# Altium integrated library TI Power Management Step-Down Regulator.IntLib: 559 symbols (part 13 of 35)
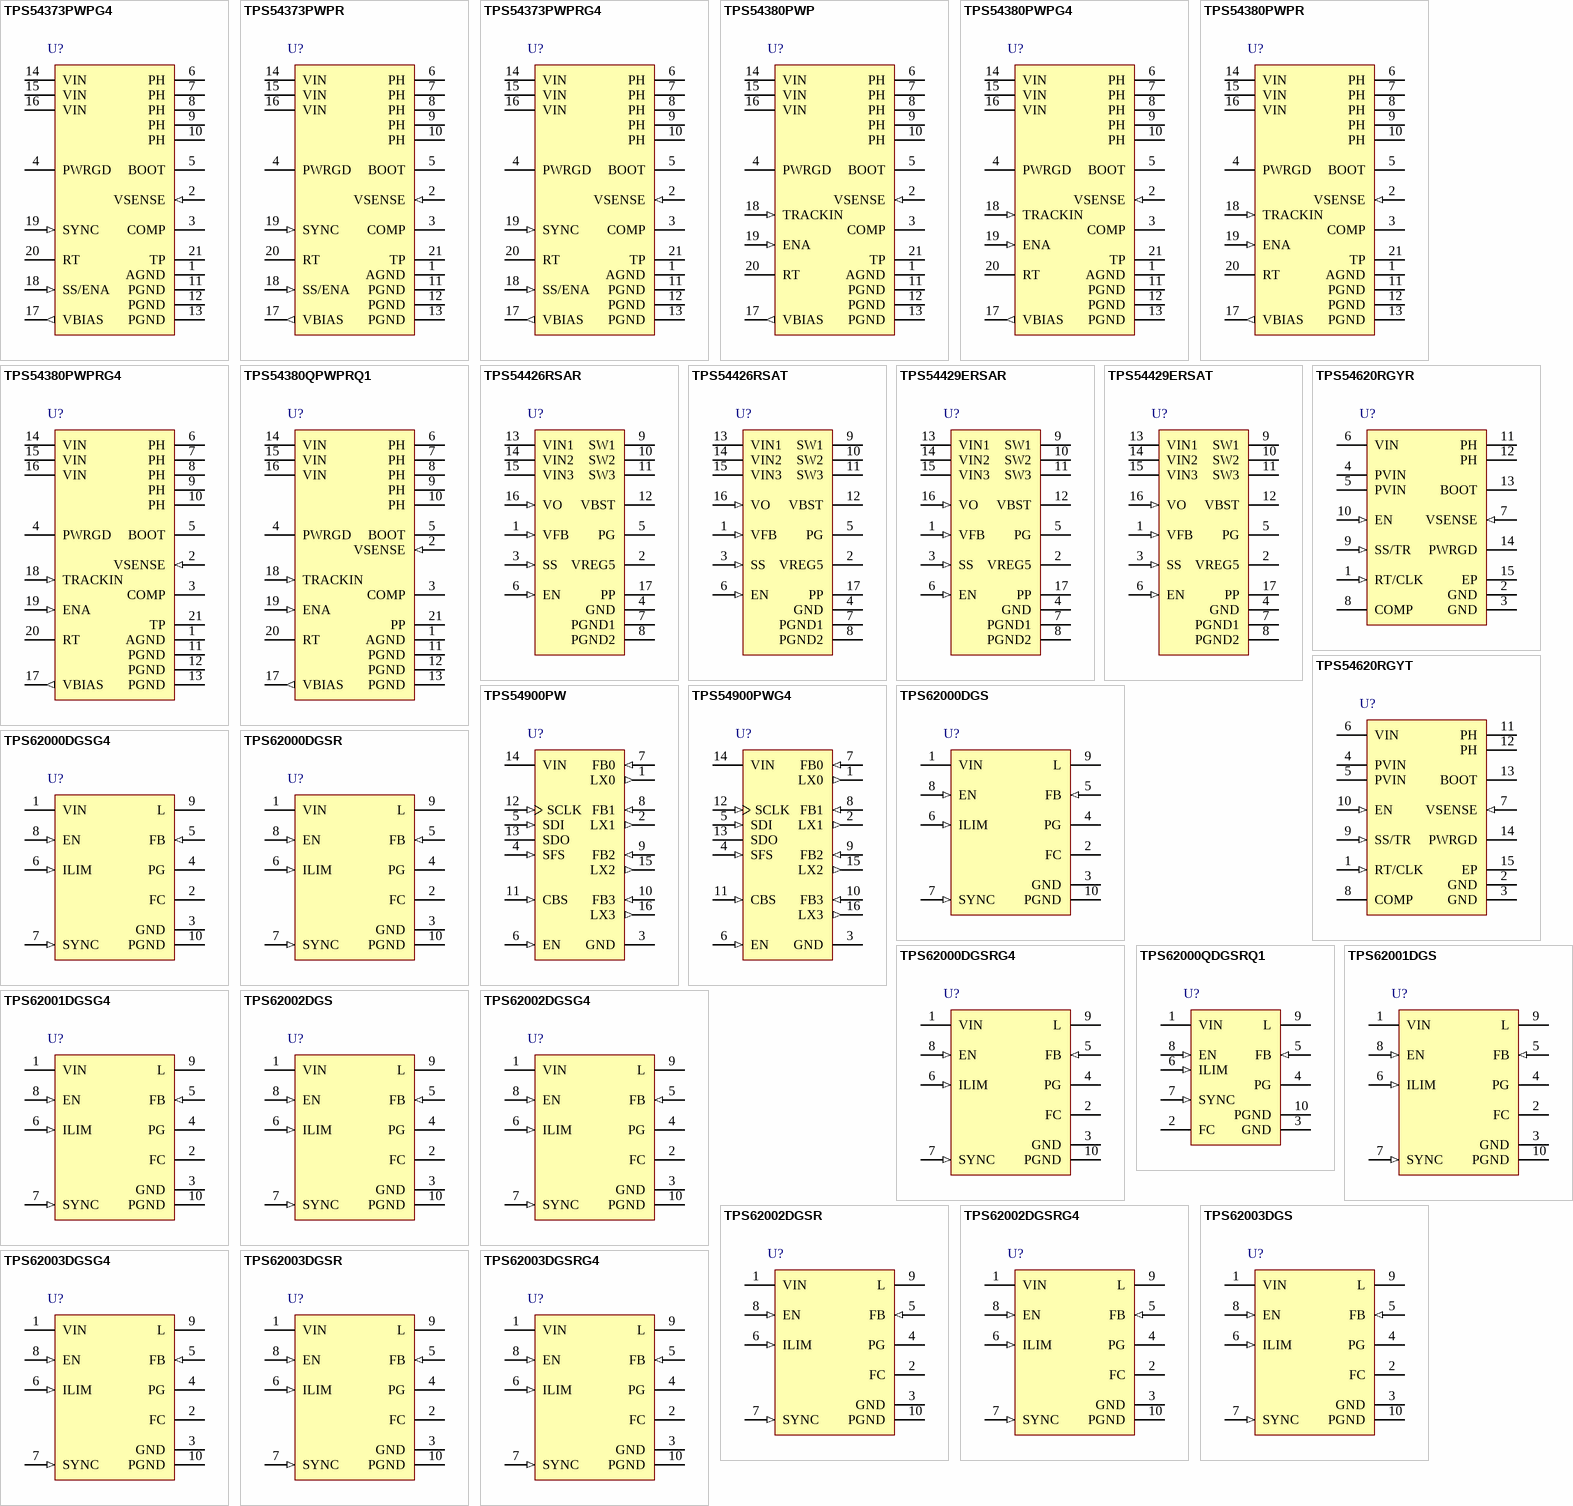
[diagram p31: symbols TPS54373PWPG4 to TPS62003DGSRG4]

## TPS62000DGSRG4
designator U?
Buck Step-Down Regulator with 2 V to 5.5 V Input and 0.9 V to 5 V Output, -40 to 85 degC, 10-Pin MSOP (DGS), Green (RoHS & no Sb/Br); Manufacturer: Texas Instruments; PartNumber: TPS62000DGSRG4; Duty Cycle(Max)(%): 100; Iout(Max)(A): 0.6; Iq(Typ)(mA): 0.05; Rating: Catalog; Regulated Outputs(#): 1; Switch Current Limit(Typ)(A): 1.6; Synchronous Rectification: TRUE; Vin(Max)(V): 5.5; Vin(Min)(V): 2; Vout(Max)(V): 5; Vout(Min)(V): 0.9; DatasheetVersion: SLVS294E; PackageVersion: revC, Feb-2004; PackageReference: DGS10; PackageDescription: 10-Pin Thin Shrink Small Outline Package 0.5 mm Pitch; Supplier 1: Digi-Key; Supplier Part Number 1: TPS62000DGSRG4-ND; Supplier 2: Newark; Supplier Part Number 2: 71J8187; Supplier 3: Mouser; Supplier Part Number 3: 595-TPS62000DGSRG4; Eco-Plan: Green (RoHS & no Sb/Br); SubFamily: Step-Down Regulator; Topology: Buck; Mounting Technology: Surface Mount; Code_JEDEC: MO-187-BA; ComponentLink1Description: Datasheet; ComponentLink1URL: http://www.ti.com/general/docs/lit/getliterature.tsp?genericPartNumber=TPS62000&fileType=pdf; ComponentLink2Description: Package Specification; ComponentLink2URL: http://www.ti.com/litv/pdf/mpds373
footprint DGS10_N (TSSOP, 10-Leads, Body 3x3mm, Pitch 0.5mm, IPC Medium Density)
footprint DGS10_L (TSSOP, 10-Leads, Body 3x3mm, Pitch 0.5mm, IPC High Density)
footprint DGS10_M (TSSOP, 10-Leads, Body 3x3mm, Pitch 0.5mm, IPC Low Density)
pins: 1 VIN (power) "Supply voltage input", 2 FC "Supply bypass pin. A 0.1 µF coupling capacitor should be connected as close as possible to this pin for good high frequency input voltage supply filtering.", 3 GND (power) "Ground", 4 PG (hiz) "Power good comparator output. This is an open-drain output. A pullup resistor should be connected between PG and VO. The output goes active high when the output voltage is greater than 92% of the nominal value.", 5 FB (in) "Feedback pin for the fixed output voltage option. For the adjustable version an external resistive divider is connected to FB. The internal voltage divider is disabled for the adjustable version.", 6 ILIM (in) "Switch current limit. Connect ILIM to GND to set the switch current limit to typically 600 mA, or connect this pin to VIN to set the current limit to typically 1200 mA.", 7 SYNC (in) "Input for synchronization to external clock signal. Synchronizes the converter switching frequency to an external clock signal with CMOS level:SYNC = HIGH: Low-noise mode enabled, fixed frequency PWM operation is forced SYNC (See Datasheet)", 8 EN (in) "Enable. A logic high enables the converter, logic low forces the device into shutdown mode reducing the supply current to less than 1 uA.", 9 L (power) "Connect the inductor to this pin. L is the switch pin connected to the drain of the internal power MOSFETS", 10 PGND (power) "Power ground. Connect all power grounds to PGND."

## TPS62000QDGSRQ1
designator U?
Buck Step Down Regulator with 2 to 5.5 V Input and 0.9 to 5 V Output, -40 to 125 degC, 10-Pin MSOP (DGS), Green (RoHS & no Sb/Br); Manufacturer: Texas Instruments; PartNumber: TPS62000QDGSRQ1; Duty Cycle(Max)(%): 100; Iout(Max)(A): 0.6; Iq(Typ)(mA): 0.05; Rating: Automotive; Regulated Outputs(#): 1; SubFamily: Step-Down Regulator; Switch Current Limit(Typ)(A): 1.6; Synchronous Rectification: TRUE; Vin(Max)(V): 5.5; Vin(Min)(V): 2; Vout(Max)(V): 5; Vout(Min)(V): 0.9; DatasheetVersion: SGLS243A; PackageVersion: revC, Feb-2004; PackageReference: DGS10; PackageDescription: 10-Pin Thin Shrink Small Outline Package 0.5 mm Pitch; Supplier 1: Digi-Key; Supplier Part Number 1: 296-23767-2-ND; Supplier 2: Digi-Key; Supplier Part Number 2: 296-23767-1-ND; Supplier 3: Digi-Key; Supplier Part Number 3: 296-23767-6-ND; Supplier 4: Newark; Supplier Part Number 4: 10J9781; Supplier 5: Mouser; Supplier Part Number 5: 595-TPS62000QDGSRQ1; Eco-Plan: Green (RoHS & no Sb/Br); Topology: Buck; Mounting Technology: Surface Mount; Code_JEDEC: MO-187-BA; ComponentLink1Description: Datasheet; ComponentLink1URL: http://www.ti.com/general/docs/lit/getliterature.tsp?genericPartNumber=TPS62000-Q1&fileType=pdf; ComponentLink2Description: Package Specification; ComponentLink2URL: http://www.ti.com/litv/pdf/mpds373; ComponentLink3Description: URL Link1; ComponentLink3URL: Samples URL:http://www.ti.com/product/tps54611#samples
footprint DGS10_N (TSSOP, 10-Leads, Body 3x3mm, Pitch 0.5mm, IPC Medium Density)
footprint DGS10_L (TSSOP, 10-Leads, Body 3x3mm, Pitch 0.5mm, IPC High Density)
footprint DGS10_M (TSSOP, 10-Leads, Body 3x3mm, Pitch 0.5mm, IPC Low Density)
pins: 1 VIN (power) "Supply voltage input", 2 FC "Supply bypass pin. A 0.1-µF coupling capacitor should be connected as close as possible to this pin for good high frequency input voltage supply filtering.", 3 GND (power) "Ground", 4 PG (hiz) "Power good comparator output. This is an open-drain output. A pullup resistor should be connected between PG and VO. The output goes active high when the output voltage is greater than 92% of the nominal value.", 5 FB (in) "Feedback pin for the fixed output voltage option. For the adjustable version, an external resistive divider is connected to FB. The internal voltage divider is disabled for the adjustable version.", 6 ILIM (in) "Switch current limit. Connect ILIM to GND to set the switch current limit to typically 600 mA, or connect this pin to VIN to set the current limit to typically 1200 mA.", 7 SYNC (in) "Input for synchronization to external clock signal. Synchronizes the converter switching frequency to an external clock signal with CMOS level: SYNC = High: Low-noise mode enabled, fixed frequency PWM operation is forced (See Datasheet)", 8 EN (in) "Enable. A logic high enables the converter and a logic low forces the device into shutdown mode reducing the supply current to less than 1 µA.", 9 L (power) "Connect the inductor to this pin. L is the switch pin connected to the drain of the internal power MOSFETS.", 10 PGND (power) "Power ground. Connect all power grounds to PGND."

## TPS62001DGS
designator U?
Buck Step-Down Regulator with 2 V to 5.5 V Input and 0.9 V Output, -40 to 85 degC, 10-Pin MSOP (DGS); Manufacturer: Texas Instruments; PartNumber: TPS62001DGS; Duty Cycle(Max)(%): 100; Eco-Plan: TBD; Iout(Max)(A): 0.6; Iq(Typ)(mA): 0.05; Preset Vout(V): 0.9; Rating: Catalog; Regulated Outputs(#): 1; Switch Current Limit(Typ)(A): 1.6; Synchronous Rectification: TRUE; Vin(Max)(V): 5.5; Vin(Min)(V): 2; DatasheetVersion: SLVS294E; PackageVersion: revC, Feb-2004; PackageReference: DGS10; PackageDescription: 10-Pin Thin Shrink Small Outline Package 0.5 mm Pitch; Supplier 1: Digi-Key; Supplier Part Number 1: TPS62001DGS-ND; Supplier 2: Newark; Supplier Part Number 2: 77C0696; Supplier 3: Mouser; Supplier Part Number 3: 595-TPS62001DGS; SubFamily: Step-Down Regulator; Topology: Buck; Vout(Max)(V): 0.9; Vout(Min)(V): 0.9; Mounting Technology: Surface Mount; Code_JEDEC: MO-187-BA; ComponentLink1Description: Datasheet; ComponentLink1URL: http://www.ti.com/general/docs/lit/getliterature.tsp?genericPartNumber=TPS62001&fileType=pdf; ComponentLink2Description: Package Specification; ComponentLink2URL: http://www.ti.com/litv/pdf/mpds373
footprint DGS10_N (TSSOP, 10-Leads, Body 3x3mm, Pitch 0.5mm, IPC Medium Density)
footprint DGS10_L (TSSOP, 10-Leads, Body 3x3mm, Pitch 0.5mm, IPC High Density)
footprint DGS10_M (TSSOP, 10-Leads, Body 3x3mm, Pitch 0.5mm, IPC Low Density)
pins: 1 VIN (power) "Supply voltage input", 2 FC "Supply bypass pin. A 0.1 µF coupling capacitor should be connected as close as possible to this pin for good high frequency input voltage supply filtering.", 3 GND (power) "Ground", 4 PG (hiz) "Power good comparator output. This is an open-drain output. A pullup resistor should be connected between PG and VO. The output goes active high when the output voltage is greater than 92% of the nominal value.", 5 FB (in) "Feedback pin for the fixed output voltage option. For the adjustable version an external resistive divider is connected to FB. The internal voltage divider is disabled for the adjustable version.", 6 ILIM (in) "Switch current limit. Connect ILIM to GND to set the switch current limit to typically 600 mA, or connect this pin to VIN to set the current limit to typically 1200 mA.", 7 SYNC (in) "Input for synchronization to external clock signal. Synchronizes the converter switching frequency to an external clock signal with CMOS level:SYNC = HIGH: Low-noise mode enabled, fixed frequency PWM operation is forced SYNC (See Datasheet)", 8 EN (in) "Enable. A logic high enables the converter, logic low forces the device into shutdown mode reducing the supply current to less than 1 uA.", 9 L (power) "Connect the inductor to this pin. L is the switch pin connected to the drain of the internal power MOSFETS.", 10 PGND (power) "Power ground. Connect all power grounds to PGND."

## TPS62001DGSG4
designator U?
Buck Step-Down Regulator with 2 V to 5.5 V Input and 0.9 V Output, -40 to 85 degC, 10-Pin MSOP (DGS); Manufacturer: Texas Instruments; PartNumber: TPS62001DGSG4; Duty Cycle(Max)(%): 100; Eco-Plan: TBD; Iout(Max)(A): 0.6; Iq(Typ)(mA): 0.05; Preset Vout(V): 0.9; Rating: Catalog; Regulated Outputs(#): 1; Switch Current Limit(Typ)(A): 1.6; Synchronous Rectification: TRUE; Vin(Max)(V): 5.5; Vin(Min)(V): 2; DatasheetVersion: SLVS294E; PackageVersion: revC, Feb-2004; PackageReference: DGS10; PackageDescription: 10-Pin Thin Shrink Small Outline Package 0.5 mm Pitch; Supplier 1: Digi-Key; Supplier Part Number 1: TPS62001DGSG4-ND; Supplier 2: Newark; Supplier Part Number 2: 24K6028; Supplier 3: Mouser; Supplier Part Number 3: 595-TPS62001DGSG4; SubFamily: Step-Down Regulator; Topology: Buck; Vout(Max)(V): 0.9; Vout(Min)(V): 0.9; Mounting Technology: Surface Mount; Code_JEDEC: MO-187-BA; ComponentLink1Description: Datasheet; ComponentLink1URL: http://www.ti.com/general/docs/lit/getliterature.tsp?genericPartNumber=TPS62001&fileType=pdf; ComponentLink2Description: Package Specification; ComponentLink2URL: http://www.ti.com/litv/pdf/mpds373
footprint DGS10_N (TSSOP, 10-Leads, Body 3x3mm, Pitch 0.5mm, IPC Medium Density)
footprint DGS10_L (TSSOP, 10-Leads, Body 3x3mm, Pitch 0.5mm, IPC High Density)
footprint DGS10_M (TSSOP, 10-Leads, Body 3x3mm, Pitch 0.5mm, IPC Low Density)
pins: 1 VIN (power) "Supply voltage input", 2 FC "Supply bypass pin. A 0.1 µF coupling capacitor should be connected as close as possible to this pin for good high frequency input voltage supply filtering.", 3 GND (power) "Ground", 4 PG (hiz) "Power good comparator output. This is an open-drain output. A pullup resistor should be connected between PG and VO. The output goes active high when the output voltage is greater than 92% of the nominal value.", 5 FB (in) "Feedback pin for the fixed output voltage option. For the adjustable version an external resistive divider is connected to FB. The internal voltage divider is disabled for the adjustable version.", 6 ILIM (in) "Switch current limit. Connect ILIM to GND to set the switch current limit to typically 600 mA, or connect this pin to VIN to set the current limit to typically 1200 mA.", 7 SYNC (in) "Input for synchronization to external clock signal. Synchronizes the converter switching frequency to an external clock signal with CMOS level:SYNC = HIGH: Low-noise mode enabled, fixed frequency PWM operation is forced SYNC (See Datasheet)", 8 EN (in) "Enable. A logic high enables the converter, logic low forces the device into shutdown mode reducing the supply current to less than 1 uA.", 9 L (power) "Connect the inductor to this pin. L is the switch pin connected to the drain of the internal power MOSFETS.", 10 PGND (power) "Power ground. Connect all power grounds to PGND."

## TPS62002DGS
designator U?
Buck Step-Down Regulator with 2 V to 5.5 V Input and 1 V Output, -40 to 85 degC, 10-Pin MSOP (DGS), Green (RoHS & no Sb/Br); Manufacturer: Texas Instruments; PartNumber: TPS62002DGS; Duty Cycle(Max)(%): 100; Iout(Max)(A): 0.6; Iq(Typ)(mA): 0.05; Preset Vout(V): 1; Rating: Catalog; Switch Current Limit(Typ)(A): 1.6; Synchronous Rectification: TRUE; Vin(Max)(V): 5.5; Vin(Min)(V): 2; DatasheetVersion: SLVS294E; PackageVersion: revC, Feb-2004; PackageReference: DGS10; PackageDescription: 10-Pin Thin Shrink Small Outline Package 0.5 mm Pitch; Supplier 1: Digi-Key; Supplier Part Number 1: 296-34630-5-ND; Supplier 2: Newark; Supplier Part Number 2: 77C0698; Supplier 3: Mouser; Supplier Part Number 3: 595-TPS62002DGS; Eco-Plan: Green (RoHS & no Sb/Br); Regulated Outputs(#): 1; SubFamily: Step-Down Regulator; Topology: Buck; Vout(Max)(V): 1; Vout(Min)(V): 1; Mounting Technology: Surface Mount; Code_JEDEC: MO-187-BA; ComponentLink1Description: Datasheet; ComponentLink1URL: http://www.ti.com/general/docs/lit/getliterature.tsp?genericPartNumber=TPS62002&fileType=pdf; ComponentLink2Description: Package Specification; ComponentLink2URL: http://www.ti.com/litv/pdf/mpds373
footprint DGS10_N (TSSOP, 10-Leads, Body 3x3mm, Pitch 0.5mm, IPC Medium Density)
footprint DGS10_L (TSSOP, 10-Leads, Body 3x3mm, Pitch 0.5mm, IPC High Density)
footprint DGS10_M (TSSOP, 10-Leads, Body 3x3mm, Pitch 0.5mm, IPC Low Density)
pins: 1 VIN (power) "ISupply voltage input", 2 FC "Supply bypass pin. A 0.1 µF coupling capacitor should be connected as close as possible to this pin for good high frequency input voltage supply filtering.", 3 GND (power) "Ground", 4 PG (hiz) "Power good comparator output. This is an open-drain output. A pullup resistor should be connected between PG and VO. The output goes active high when the output voltage is greater than 92% of the nominal value.", 5 FB (in) "Feedback pin for the fixed output voltage option. For the adjustable version an external resistive divider is connected to FB. The internal voltage divider is disabled for the adjustable version.", 6 ILIM (in) "Switch current limit. Connect ILIM to GND to set the switch current limit to typically 600 mA, or connect this pin to VIN to set the current limit to typically 1200 mA.", 7 SYNC (in) "Input for synchronization to external clock signal. Synchronizes the converter switching frequency to an external clock signal with CMOS level:SYNC = HIGH: Low-noise mode enabled, fixed frequency PWM operation is forced SYNC (See Datasheet)", 8 EN (in) "Enable. A logic high enables the converter, logic low forces the device into shutdown mode reducing the supply current to less than 1 uA.", 9 L (power) "Connect the inductor to this pin. L is the switch pin connected to the drain of the internal power MOSFETS.", 10 PGND (power) "Power ground. Connect all power grounds to PGND."

## TPS62002DGSG4
designator U?
Buck Step-Down Regulator with 2 V to 5.5 V Input and 1 V Output, -40 to 85 degC, 10-Pin MSOP (DGS), Green (RoHS & no Sb/Br); Manufacturer: Texas Instruments; PartNumber: TPS62002DGSG4; Duty Cycle(Max)(%): 100; Iout(Max)(A): 0.6; Iq(Typ)(mA): 0.05; Preset Vout(V): 1; Rating: Catalog; Switch Current Limit(Typ)(A): 1.6; Synchronous Rectification: TRUE; Vin(Max)(V): 5.5; Vin(Min)(V): 2; DatasheetVersion: SLVS294E; PackageVersion: revC, Feb-2004; PackageReference: DGS10; PackageDescription: 10-Pin Thin Shrink Small Outline Package 0.5 mm Pitch; Supplier 1: Digi-Key; Supplier Part Number 1: TPS62002DGSG4-ND; Supplier 2: Newark; Supplier Part Number 2: 24K6029; Supplier 3: Mouser; Supplier Part Number 3: 595-TPS62002DGSG4; Eco-Plan: Green (RoHS & no Sb/Br); Regulated Outputs(#): 1; SubFamily: Step-Down Regulator; Topology: Buck; Vout(Max)(V): 1; Vout(Min)(V): 1; Mounting Technology: Surface Mount; Code_JEDEC: MO-187-BA; ComponentLink1Description: Datasheet; ComponentLink1URL: http://www.ti.com/general/docs/lit/getliterature.tsp?genericPartNumber=TPS62002&fileType=pdf; ComponentLink2Description: Package Specification; ComponentLink2URL: http://www.ti.com/litv/pdf/mpds373
footprint DGS10_N (TSSOP, 10-Leads, Body 3x3mm, Pitch 0.5mm, IPC Medium Density)
footprint DGS10_L (TSSOP, 10-Leads, Body 3x3mm, Pitch 0.5mm, IPC High Density)
footprint DGS10_M (TSSOP, 10-Leads, Body 3x3mm, Pitch 0.5mm, IPC Low Density)
pins: 1 VIN (power) "ISupply voltage input", 2 FC "Supply bypass pin. A 0.1 µF coupling capacitor should be connected as close as possible to this pin for good high frequency input voltage supply filtering.", 3 GND (power) "Ground", 4 PG (hiz) "Power good comparator output. This is an open-drain output. A pullup resistor should be connected between PG and VO. The output goes active high when the output voltage is greater than 92% of the nominal value.", 5 FB (in) "Feedback pin for the fixed output voltage option. For the adjustable version an external resistive divider is connected to FB. The internal voltage divider is disabled for the adjustable version.", 6 ILIM (in) "Switch current limit. Connect ILIM to GND to set the switch current limit to typically 600 mA, or connect this pin to VIN to set the current limit to typically 1200 mA.", 7 SYNC (in) "Input for synchronization to external clock signal. Synchronizes the converter switching frequency to an external clock signal with CMOS level:SYNC = HIGH: Low-noise mode enabled, fixed frequency PWM operation is forced SYNC (See Datasheet)", 8 EN (in) "Enable. A logic high enables the converter, logic low forces the device into shutdown mode reducing the supply current to less than 1 uA.", 9 L (power) "Connect the inductor to this pin. L is the switch pin connected to the drain of the internal power MOSFETS.", 10 PGND (power) "Power ground. Connect all power grounds to PGND."

## TPS62002DGSR
designator U?
Buck Step-Down Regulator with 2 V to 5.5 V Input and 1 V Output, -40 to 85 degC, 10-Pin MSOP (DGS), Green (RoHS & no Sb/Br); Manufacturer: Texas Instruments; PartNumber: TPS62002DGSR; Duty Cycle(Max)(%): 100; Iout(Max)(A): 0.6; Iq(Typ)(mA): 0.05; Preset Vout(V): 1; Rating: Catalog; Switch Current Limit(Typ)(A): 1.6; Synchronous Rectification: TRUE; Vin(Max)(V): 5.5; Vin(Min)(V): 2; DatasheetVersion: SLVS294E; PackageVersion: revC, Feb-2004; PackageReference: DGS10; PackageDescription: 10-Pin Thin Shrink Small Outline Package 0.5 mm Pitch; Supplier 1: Digi-Key; Supplier Part Number 1: 296-11613-2-ND; Supplier 2: Digi-Key; Supplier Part Number 2: 296-11613-1-ND; Supplier 3: Digi-Key; Supplier Part Number 3: 296-11613-6-ND; Supplier 4: Newark; Supplier Part Number 4: 77C0699; Supplier 5: Mouser; Supplier Part Number 5: 595-TPS62002DGSR; Eco-Plan: Green (RoHS & no Sb/Br); Regulated Outputs(#): 1; SubFamily: Step-Down Regulator; Topology: Buck; Vout(Max)(V): 1; Vout(Min)(V): 1; Mounting Technology: Surface Mount; Code_JEDEC: MO-187-BA; ComponentLink1Description: Datasheet; ComponentLink1URL: http://www.ti.com/general/docs/lit/getliterature.tsp?genericPartNumber=TPS62002&fileType=pdf; ComponentLink2Description: Package Specification; ComponentLink2URL: http://www.ti.com/litv/pdf/mpds373
footprint DGS10_N (TSSOP, 10-Leads, Body 3x3mm, Pitch 0.5mm, IPC Medium Density)
footprint DGS10_L (TSSOP, 10-Leads, Body 3x3mm, Pitch 0.5mm, IPC High Density)
footprint DGS10_M (TSSOP, 10-Leads, Body 3x3mm, Pitch 0.5mm, IPC Low Density)
pins: 1 VIN (power) "ISupply voltage input", 2 FC "Supply bypass pin. A 0.1 µF coupling capacitor should be connected as close as possible to this pin for good high frequency input voltage supply filtering.", 3 GND (power) "Ground", 4 PG (hiz) "Power good comparator output. This is an open-drain output. A pullup resistor should be connected between PG and VO. The output goes active high when the output voltage is greater than 92% of the nominal value.", 5 FB (in) "Feedback pin for the fixed output voltage option. For the adjustable version an external resistive divider is connected to FB. The internal voltage divider is disabled for the adjustable version.", 6 ILIM (in) "Switch current limit. Connect ILIM to GND to set the switch current limit to typically 600 mA, or connect this pin to VIN to set the current limit to typically 1200 mA.", 7 SYNC (in) "Input for synchronization to external clock signal. Synchronizes the converter switching frequency to an external clock signal with CMOS level:SYNC = HIGH: Low-noise mode enabled, fixed frequency PWM operation is forced SYNC (See Datasheet)", 8 EN (in) "Enable. A logic high enables the converter, logic low forces the device into shutdown mode reducing the supply current to less than 1 uA.", 9 L (power) "Connect the inductor to this pin. L is the switch pin connected to the drain of the internal power MOSFETS.", 10 PGND (power) "Power ground. Connect all power grounds to PGND."

## TPS62002DGSRG4
designator U?
Buck Step-Down Regulator with 2 V to 5.5 V Input and 1 V Output, -40 to 85 degC, 10-Pin MSOP (DGS), Green (RoHS & no Sb/Br); Manufacturer: Texas Instruments; PartNumber: TPS62002DGSRG4; Duty Cycle(Max)(%): 100; Iout(Max)(A): 0.6; Iq(Typ)(mA): 0.05; Preset Vout(V): 1; Rating: Catalog; Switch Current Limit(Typ)(A): 1.6; Synchronous Rectification: TRUE; Vin(Max)(V): 5.5; Vin(Min)(V): 2; DatasheetVersion: SLVS294E; PackageVersion: revC, Feb-2004; PackageReference: DGS10; PackageDescription: 10-Pin Thin Shrink Small Outline Package 0.5 mm Pitch; Supplier 1: Digi-Key; Supplier Part Number 1: TPS62002DGSRG4-ND; Supplier 2: Newark; Supplier Part Number 2: 54K1733; Supplier 3: Mouser; Supplier Part Number 3: 595-TPS62002DGSRG4; Eco-Plan: Green (RoHS & no Sb/Br); Regulated Outputs(#): 1; SubFamily: Step-Down Regulator; Topology: Buck; Vout(Max)(V): 1; Vout(Min)(V): 1; Mounting Technology: Surface Mount; Code_JEDEC: MO-187-BA; ComponentLink1Description: Datasheet; ComponentLink1URL: http://www.ti.com/general/docs/lit/getliterature.tsp?genericPartNumber=TPS62002&fileType=pdf; ComponentLink2Description: Package Specification; ComponentLink2URL: http://www.ti.com/litv/pdf/mpds373
footprint DGS10_N (TSSOP, 10-Leads, Body 3x3mm, Pitch 0.5mm, IPC Medium Density)
footprint DGS10_L (TSSOP, 10-Leads, Body 3x3mm, Pitch 0.5mm, IPC High Density)
footprint DGS10_M (TSSOP, 10-Leads, Body 3x3mm, Pitch 0.5mm, IPC Low Density)
pins: 1 VIN (power) "ISupply voltage input", 2 FC "Supply bypass pin. A 0.1 µF coupling capacitor should be connected as close as possible to this pin for good high frequency input voltage supply filtering.", 3 GND (power) "Ground", 4 PG (hiz) "Power good comparator output. This is an open-drain output. A pullup resistor should be connected between PG and VO. The output goes active high when the output voltage is greater than 92% of the nominal value.", 5 FB (in) "Feedback pin for the fixed output voltage option. For the adjustable version an external resistive divider is connected to FB. The internal voltage divider is disabled for the adjustable version.", 6 ILIM (in) "Switch current limit. Connect ILIM to GND to set the switch current limit to typically 600 mA, or connect this pin to VIN to set the current limit to typically 1200 mA.", 7 SYNC (in) "Input for synchronization to external clock signal. Synchronizes the converter switching frequency to an external clock signal with CMOS level:SYNC = HIGH: Low-noise mode enabled, fixed frequency PWM operation is forced SYNC (See Datasheet)", 8 EN (in) "Enable. A logic high enables the converter, logic low forces the device into shutdown mode reducing the supply current to less than 1 uA.", 9 L (power) "Connect the inductor to this pin. L is the switch pin connected to the drain of the internal power MOSFETS.", 10 PGND (power) "Power ground. Connect all power grounds to PGND."

## TPS62003DGS
designator U?
Buck Step-Down Regulator with 2 V to 5.5 V Input and 1.2 V Output, -40 to 85 degC, 10-Pin MSOP (DGS), Green (RoHS & no Sb/Br); Manufacturer: Texas Instruments; PartNumber: TPS62003DGS; Duty Cycle(Max)(%): 100; Iout(Max)(A): 0.6; Iq(Typ)(mA): 0.05; Preset Vout(V): 1.2; Rating: Catalog; Regulated Outputs(#): 1; Switch Current Limit(Typ)(A): 1.6; Synchronous Rectification: TRUE; Vin(Max)(V): 5.5; Vin(Min)(V): 2; DatasheetVersion: SLVS294E; PackageVersion: revC, Feb-2004; PackageReference: DGS10; PackageDescription: 10-Pin Thin Shrink Small Outline Package 0.5 mm Pitch; Supplier 1: Digi-Key; Supplier Part Number 1: 296-27019-5-ND; Supplier 2: Newark; Supplier Part Number 2: 77C0700; Supplier 3: Mouser; Supplier Part Number 3: 595-TPS62003DGS; Eco-Plan: Green (RoHS & no Sb/Br); SubFamily: Step-Down Regulator; Topology: Buck; Vout(Max)(V): 1.2; Vout(Min)(V): 1.2; Mounting Technology: Surface Mount; Code_JEDEC: MO-187-BA; ComponentLink1Description: Datasheet; ComponentLink1URL: http://www.ti.com/general/docs/lit/getliterature.tsp?genericPartNumber=TPS62003&fileType=pdf; ComponentLink2Description: Package Specification; ComponentLink2URL: http://www.ti.com/litv/pdf/mpds373
footprint DGS10_N (TSSOP, 10-Leads, Body 3x3mm, Pitch 0.5mm, IPC Medium Density)
footprint DGS10_L (TSSOP, 10-Leads, Body 3x3mm, Pitch 0.5mm, IPC High Density)
footprint DGS10_M (TSSOP, 10-Leads, Body 3x3mm, Pitch 0.5mm, IPC Low Density)
pins: 1 VIN (power) "Supply voltage input", 2 FC "Supply bypass pin. A 0.1 µF coupling capacitor should be connected as close as possible to this pin for good high frequency input voltage supply filtering.", 3 GND (power) "Ground", 4 PG (hiz) "Power good comparator output. This is an open-drain output. A pullup resistor should be connected between PG and VO. The output goes active high when the output voltage is greater than 92% of the nominal value.", 5 FB (in) "Feedback pin for the fixed output voltage option. For the adjustable version an external resistive divider is connected to FB. The internal voltage divider is disabled for the adjustable version.", 6 ILIM (in) "Switch current limit. Connect ILIM to GND to set the switch current limit to typically 600 mA, or connect this pin to VIN to set the current limit to typically 1200 mA.", 7 SYNC (in) "Input for synchronization to external clock signal. Synchronizes the converter switching frequency to an external clock signal with CMOS level:SYNC = HIGH: Low-noise mode enabled, fixed frequency PWM operation is forced SYNC (See Datasheet)", 8 EN (in) "Enable. A logic high enables the converter, logic low forces the device into shutdown mode reducing the supply current to less than 1 uA.", 9 L (power) "Connect the inductor to this pin. L is the switch pin connected to the drain of the internal power MOSFETS", 10 PGND (power) "Power ground. Connect all power grounds to PGND."

## TPS62003DGSG4
designator U?
Buck Step-Down Regulator with 2 V to 5.5 V Input and 1.2 V Output, -40 to 85 degC, 10-Pin MSOP (DGS), Green (RoHS & no Sb/Br); Manufacturer: Texas Instruments; PartNumber: TPS62003DGSG4; Duty Cycle(Max)(%): 100; Iout(Max)(A): 0.6; Iq(Typ)(mA): 0.05; Preset Vout(V): 1.2; Rating: Catalog; Regulated Outputs(#): 1; Switch Current Limit(Typ)(A): 1.6; Synchronous Rectification: TRUE; Vin(Max)(V): 5.5; Vin(Min)(V): 2; DatasheetVersion: SLVS294E; PackageVersion: revC, Feb-2004; PackageReference: DGS10; PackageDescription: 10-Pin Thin Shrink Small Outline Package 0.5 mm Pitch; Supplier 1: Digi-Key; Supplier Part Number 1: TPS62003DGSG4-ND; Supplier 2: Newark; Supplier Part Number 2: 71J8188; Supplier 3: Mouser; Supplier Part Number 3: 595-TPS62003DGSG4; Eco-Plan: Green (RoHS & no Sb/Br); SubFamily: Step-Down Regulator; Topology: Buck; Vout(Max)(V): 1.2; Vout(Min)(V): 1.2; Mounting Technology: Surface Mount; Code_JEDEC: MO-187-BA; ComponentLink1Description: Datasheet; ComponentLink1URL: http://www.ti.com/general/docs/lit/getliterature.tsp?genericPartNumber=TPS62003&fileType=pdf; ComponentLink2Description: Package Specification; ComponentLink2URL: http://www.ti.com/litv/pdf/mpds373
footprint DGS10_N (TSSOP, 10-Leads, Body 3x3mm, Pitch 0.5mm, IPC Medium Density)
footprint DGS10_L (TSSOP, 10-Leads, Body 3x3mm, Pitch 0.5mm, IPC High Density)
footprint DGS10_M (TSSOP, 10-Leads, Body 3x3mm, Pitch 0.5mm, IPC Low Density)
pins: 1 VIN (power) "Supply voltage input", 2 FC "Supply bypass pin. A 0.1 µF coupling capacitor should be connected as close as possible to this pin for good high frequency input voltage supply filtering.", 3 GND (power) "Ground", 4 PG (hiz) "Power good comparator output. This is an open-drain output. A pullup resistor should be connected between PG and VO. The output goes active high when the output voltage is greater than 92% of the nominal value.", 5 FB (in) "Feedback pin for the fixed output voltage option. For the adjustable version an external resistive divider is connected to FB. The internal voltage divider is disabled for the adjustable version.", 6 ILIM (in) "Switch current limit. Connect ILIM to GND to set the switch current limit to typically 600 mA, or connect this pin to VIN to set the current limit to typically 1200 mA.", 7 SYNC (in) "Input for synchronization to external clock signal. Synchronizes the converter switching frequency to an external clock signal with CMOS level:SYNC = HIGH: Low-noise mode enabled, fixed frequency PWM operation is forced SYNC (See Datasheet)", 8 EN (in) "Enable. A logic high enables the converter, logic low forces the device into shutdown mode reducing the supply current to less than 1 uA.", 9 L (power) "Connect the inductor to this pin. L is the switch pin connected to the drain of the internal power MOSFETS", 10 PGND (power) "Power ground. Connect all power grounds to PGND."

## TPS62003DGSR
designator U?
Buck Step-Down Regulator with 2 V to 5.5 V Input and 1.2 V Output, -40 to 85 degC, 10-Pin MSOP (DGS), Green (RoHS & no Sb/Br); Manufacturer: Texas Instruments; PartNumber: TPS62003DGSR; Duty Cycle(Max)(%): 100; Iout(Max)(A): 0.6; Iq(Typ)(mA): 0.05; Preset Vout(V): 1.2; Rating: Catalog; Regulated Outputs(#): 1; Switch Current Limit(Typ)(A): 1.6; Synchronous Rectification: TRUE; Vin(Max)(V): 5.5; Vin(Min)(V): 2; DatasheetVersion: SLVS294E; PackageVersion: revC, Feb-2004; PackageReference: DGS10; PackageDescription: 10-Pin Thin Shrink Small Outline Package 0.5 mm Pitch; Supplier 1: Digi-Key; Supplier Part Number 1: 296-11614-2-ND; Supplier 2: Digi-Key; Supplier Part Number 2: 296-11614-1-ND; Supplier 3: Digi-Key; Supplier Part Number 3: 296-11614-6-ND; Supplier 4: Newark; Supplier Part Number 4: 77C0701; Supplier 5: Mouser; Supplier Part Number 5: 595-TPS62003DGSR; Eco-Plan: Green (RoHS & no Sb/Br); SubFamily: Step-Down Regulator; Topology: Buck; Vout(Max)(V): 1.2; Vout(Min)(V): 1.2; Mounting Technology: Surface Mount; Code_JEDEC: MO-187-BA; ComponentLink1Description: Datasheet; ComponentLink1URL: http://www.ti.com/general/docs/lit/getliterature.tsp?genericPartNumber=TPS62003&fileType=pdf; ComponentLink2Description: Package Specification; ComponentLink2URL: http://www.ti.com/litv/pdf/mpds373
footprint DGS10_N (TSSOP, 10-Leads, Body 3x3mm, Pitch 0.5mm, IPC Medium Density)
footprint DGS10_L (TSSOP, 10-Leads, Body 3x3mm, Pitch 0.5mm, IPC High Density)
footprint DGS10_M (TSSOP, 10-Leads, Body 3x3mm, Pitch 0.5mm, IPC Low Density)
pins: 1 VIN (power) "Supply voltage input", 2 FC "Supply bypass pin. A 0.1 µF coupling capacitor should be connected as close as possible to this pin for good high frequency input voltage supply filtering.", 3 GND (power) "Ground", 4 PG (hiz) "Power good comparator output. This is an open-drain output. A pullup resistor should be connected between PG and VO. The output goes active high when the output voltage is greater than 92% of the nominal value.", 5 FB (in) "Feedback pin for the fixed output voltage option. For the adjustable version an external resistive divider is connected to FB. The internal voltage divider is disabled for the adjustable version.", 6 ILIM (in) "Switch current limit. Connect ILIM to GND to set the switch current limit to typically 600 mA, or connect this pin to VIN to set the current limit to typically 1200 mA.", 7 SYNC (in) "Input for synchronization to external clock signal. Synchronizes the converter switching frequency to an external clock signal with CMOS level:SYNC = HIGH: Low-noise mode enabled, fixed frequency PWM operation is forced SYNC (See Datasheet)", 8 EN (in) "Enable. A logic high enables the converter, logic low forces the device into shutdown mode reducing the supply current to less than 1 uA.", 9 L (power) "Connect the inductor to this pin. L is the switch pin connected to the drain of the internal power MOSFETS", 10 PGND (power) "Power ground. Connect all power grounds to PGND."

## TPS62003DGSRG4
designator U?
Buck Step-Down Regulator with 2 V to 5.5 V Input and 1.2 V Output, -40 to 85 degC, 10-Pin MSOP (DGS), Green (RoHS & no Sb/Br); Manufacturer: Texas Instruments; PartNumber: TPS62003DGSRG4; Duty Cycle(Max)(%): 100; Iout(Max)(A): 0.6; Iq(Typ)(mA): 0.05; Preset Vout(V): 1.2; Rating: Catalog; Regulated Outputs(#): 1; Switch Current Limit(Typ)(A): 1.6; Synchronous Rectification: TRUE; Vin(Max)(V): 5.5; Vin(Min)(V): 2; DatasheetVersion: SLVS294E; PackageVersion: revC, Feb-2004; PackageReference: DGS10; PackageDescription: 10-Pin Thin Shrink Small Outline Package 0.5 mm Pitch; Supplier 1: Digi-Key; Supplier Part Number 1: TPS62003DGSRG4-ND; Supplier 2: Newark; Supplier Part Number 2: 71J8189; Supplier 3: Mouser; Supplier Part Number 3: 595-TPS62003DGSRG4; Eco-Plan: Green (RoHS & no Sb/Br); SubFamily: Step-Down Regulator; Topology: Buck; Vout(Max)(V): 1.2; Vout(Min)(V): 1.2; Mounting Technology: Surface Mount; Code_JEDEC: MO-187-BA; ComponentLink1Description: Datasheet; ComponentLink1URL: http://www.ti.com/general/docs/lit/getliterature.tsp?genericPartNumber=TPS62003&fileType=pdf; ComponentLink2Description: Package Specification; ComponentLink2URL: http://www.ti.com/litv/pdf/mpds373
footprint DGS10_N (TSSOP, 10-Leads, Body 3x3mm, Pitch 0.5mm, IPC Medium Density)
footprint DGS10_L (TSSOP, 10-Leads, Body 3x3mm, Pitch 0.5mm, IPC High Density)
footprint DGS10_M (TSSOP, 10-Leads, Body 3x3mm, Pitch 0.5mm, IPC Low Density)
pins: 1 VIN (power) "Supply voltage input", 2 FC "Supply bypass pin. A 0.1 µF coupling capacitor should be connected as close as possible to this pin for good high frequency input voltage supply filtering.", 3 GND (power) "Ground", 4 PG (hiz) "Power good comparator output. This is an open-drain output. A pullup resistor should be connected between PG and VO. The output goes active high when the output voltage is greater than 92% of the nominal value.", 5 FB (in) "Feedback pin for the fixed output voltage option. For the adjustable version an external resistive divider is connected to FB. The internal voltage divider is disabled for the adjustable version.", 6 ILIM (in) "Switch current limit. Connect ILIM to GND to set the switch current limit to typically 600 mA, or connect this pin to VIN to set the current limit to typically 1200 mA.", 7 SYNC (in) "Input for synchronization to external clock signal. Synchronizes the converter switching frequency to an external clock signal with CMOS level:SYNC = HIGH: Low-noise mode enabled, fixed frequency PWM operation is forced SYNC (See Datasheet)", 8 EN (in) "Enable. A logic high enables the converter, logic low forces the device into shutdown mode reducing the supply current to less than 1 uA.", 9 L (power) "Connect the inductor to this pin. L is the switch pin connected to the drain of the internal power MOSFETS", 10 PGND (power) "Power ground. Connect all power grounds to PGND."

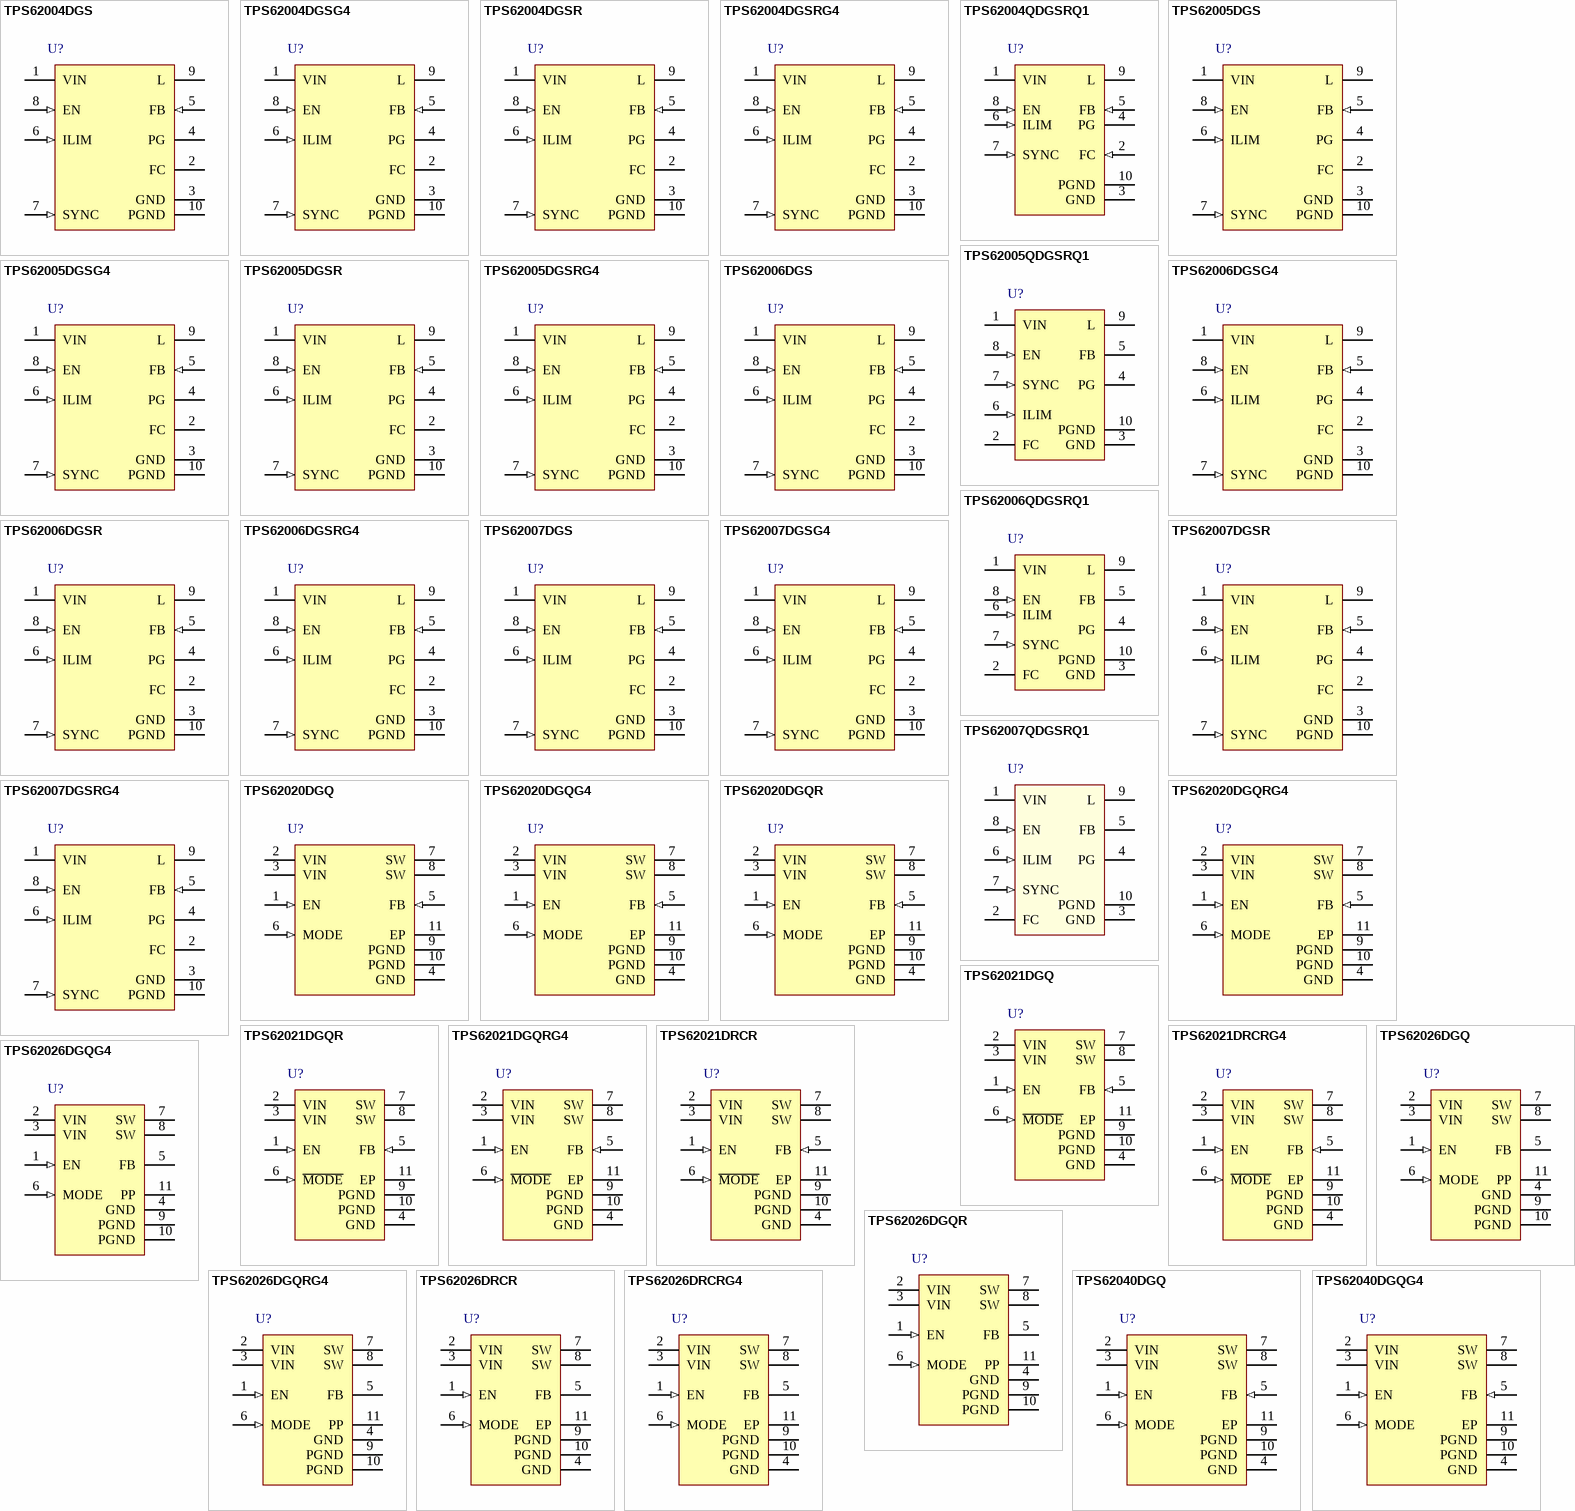
[diagram p7: symbols TPS62004DGS to TPS62040DGQG4]

## TPS62004DGS
designator U?
Buck Step-Down Regulator with 2 V to 5.5 V Input and 1.5 V Output, -40 to 85 degC, 10-Pin MSOP (DGS), Green (RoHS & no Sb/Br); Manufacturer: Texas Instruments; PartNumber: TPS62004DGS; Duty Cycle(Max)(%): 100; Iout(Max)(A): 0.6; Iq(Typ)(mA): 0.05; Preset Vout(V): 1.5; Rating: Catalog; Regulated Outputs(#): 1; Switch Current Limit(Typ)(A): 1.6; Synchronous Rectification: TRUE; Vin(Max)(V): 5.5; Vin(Min)(V): 2; DatasheetVersion: SLVS294E; PackageVersion: revC, Feb-2004; PackageReference: DGS10; PackageDescription: 10-Pin Thin Shrink Small Outline Package 0.5 mm Pitch; Supplier 1: Digi-Key; Supplier Part Number 1: 296-34631-5-ND; Supplier 2: Newark; Supplier Part Number 2: 77C0702; Supplier 3: Mouser; Supplier Part Number 3: 595-TPS62004DGS; Eco-Plan: Green (RoHS & no Sb/Br); SubFamily: Step-Down Regulator; Topology: Buck; Vout(Max)(V): 1.5; Vout(Min)(V): 1.5; Mounting Technology: Surface Mount; Code_JEDEC: MO-187-BA; ComponentLink1Description: Datasheet; ComponentLink1URL: http://www.ti.com/general/docs/lit/getliterature.tsp?genericPartNumber=TPS62004&fileType=pdf; ComponentLink2Description: Package Specification; ComponentLink2URL: http://www.ti.com/litv/pdf/mpds373
footprint DGS10_N (TSSOP, 10-Leads, Body 3x3mm, Pitch 0.5mm, IPC Medium Density)
footprint DGS10_L (TSSOP, 10-Leads, Body 3x3mm, Pitch 0.5mm, IPC High Density)
footprint DGS10_M (TSSOP, 10-Leads, Body 3x3mm, Pitch 0.5mm, IPC Low Density)
pins: 1 VIN (power) "Supply voltage input", 2 FC "Supply bypass pin. A 0.1 µF coupling capacitor should be connected as close as possible to this pin for good high frequency input voltage supply filtering.", 3 GND (power) "Ground", 4 PG (hiz) "Power good comparator output. This is an open-drain output. A pullup resistor should be connected between PG and VO. The output goes active high when the output voltage is greater than 92% of the nominal value.", 5 FB (in) "Feedback pin for the fixed output voltage option. For the adjustable version an external resistive divider is connected to FB. The internal voltage divider is disabled for the adjustable version.", 6 ILIM (in) "Switch current limit. Connect ILIM to GND to set the switch current limit to typically 600 mA, or connect this pin to VIN to set the current limit to typically 1200 mA.", 7 SYNC (in) "Input for synchronization to external clock signal. Synchronizes the converter switching frequency to an external clock signal with CMOS level:SYNC = HIGH: Low-noise mode enabled, fixed frequency PWM operation is forced SYNC (See Datasheet)", 8 EN (in) "Enable. A logic high enables the converter, logic low forces the device into shutdown mode reducing the supply current to less than 1 uA.", 9 L (power) "Connect the inductor to this pin. L is the switch pin connected to the drain of the internal power MOSFETS", 10 PGND (power) "Power ground. Connect all power grounds to PGND."

## TPS62004DGSG4
designator U?
Buck Step-Down Regulator with 2 V to 5.5 V Input and 1.5 V Output, -40 to 85 degC, 10-Pin MSOP (DGS), Green (RoHS & no Sb/Br); Manufacturer: Texas Instruments; PartNumber: TPS62004DGSG4; Duty Cycle(Max)(%): 100; Iout(Max)(A): 0.6; Iq(Typ)(mA): 0.05; Preset Vout(V): 1.5; Rating: Catalog; Regulated Outputs(#): 1; Switch Current Limit(Typ)(A): 1.6; Synchronous Rectification: TRUE; Vin(Max)(V): 5.5; Vin(Min)(V): 2; DatasheetVersion: SLVS294E; PackageVersion: revC, Feb-2004; PackageReference: DGS10; PackageDescription: 10-Pin Thin Shrink Small Outline Package 0.5 mm Pitch; Supplier 1: Digi-Key; Supplier Part Number 1: TPS62004DGSG4-ND; Supplier 2: Newark; Supplier Part Number 2: 71J8190; Supplier 3: Mouser; Supplier Part Number 3: 595-TPS62004DGSG4; Eco-Plan: Green (RoHS & no Sb/Br); SubFamily: Step-Down Regulator; Topology: Buck; Vout(Max)(V): 1.5; Vout(Min)(V): 1.5; Mounting Technology: Surface Mount; Code_JEDEC: MO-187-BA; ComponentLink1Description: Datasheet; ComponentLink1URL: http://www.ti.com/general/docs/lit/getliterature.tsp?genericPartNumber=TPS62004&fileType=pdf; ComponentLink2Description: Package Specification; ComponentLink2URL: http://www.ti.com/litv/pdf/mpds373
footprint DGS10_N (TSSOP, 10-Leads, Body 3x3mm, Pitch 0.5mm, IPC Medium Density)
footprint DGS10_L (TSSOP, 10-Leads, Body 3x3mm, Pitch 0.5mm, IPC High Density)
footprint DGS10_M (TSSOP, 10-Leads, Body 3x3mm, Pitch 0.5mm, IPC Low Density)
pins: 1 VIN (power) "Supply voltage input", 2 FC "Supply bypass pin. A 0.1 µF coupling capacitor should be connected as close as possible to this pin for good high frequency input voltage supply filtering.", 3 GND (power) "Ground", 4 PG (hiz) "Power good comparator output. This is an open-drain output. A pullup resistor should be connected between PG and VO. The output goes active high when the output voltage is greater than 92% of the nominal value.", 5 FB (in) "Feedback pin for the fixed output voltage option. For the adjustable version an external resistive divider is connected to FB. The internal voltage divider is disabled for the adjustable version.", 6 ILIM (in) "Switch current limit. Connect ILIM to GND to set the switch current limit to typically 600 mA, or connect this pin to VIN to set the current limit to typically 1200 mA.", 7 SYNC (in) "Input for synchronization to external clock signal. Synchronizes the converter switching frequency to an external clock signal with CMOS level:SYNC = HIGH: Low-noise mode enabled, fixed frequency PWM operation is forced SYNC (See Datasheet)", 8 EN (in) "Enable. A logic high enables the converter, logic low forces the device into shutdown mode reducing the supply current to less than 1 uA.", 9 L (power) "Connect the inductor to this pin. L is the switch pin connected to the drain of the internal power MOSFETS", 10 PGND (power) "Power ground. Connect all power grounds to PGND."

## TPS62004DGSR
designator U?
Buck Step-Down Regulator with 2 V to 5.5 V Input and 1.5 V Output, -40 to 85 degC, 10-Pin MSOP (DGS), Green (RoHS & no Sb/Br); Manufacturer: Texas Instruments; PartNumber: TPS62004DGSR; Duty Cycle(Max)(%): 100; Iout(Max)(A): 0.6; Iq(Typ)(mA): 0.05; Preset Vout(V): 1.5; Rating: Catalog; Regulated Outputs(#): 1; Switch Current Limit(Typ)(A): 1.6; Synchronous Rectification: TRUE; Vin(Max)(V): 5.5; Vin(Min)(V): 2; DatasheetVersion: SLVS294E; PackageVersion: revC, Feb-2004; PackageReference: DGS10; PackageDescription: 10-Pin Thin Shrink Small Outline Package 0.5 mm Pitch; Supplier 1: Digi-Key; Supplier Part Number 1: 296-11615-2-ND; Supplier 2: Digi-Key; Supplier Part Number 2: 296-11615-1-ND; Supplier 3: Digi-Key; Supplier Part Number 3: 296-11615-6-ND; Supplier 4: Newark; Supplier Part Number 4: 77C0703; Supplier 5: Mouser; Supplier Part Number 5: 595-TPS62004DGSR; Eco-Plan: Green (RoHS & no Sb/Br); SubFamily: Step-Down Regulator; Topology: Buck; Vout(Max)(V): 1.5; Vout(Min)(V): 1.5; Mounting Technology: Surface Mount; Code_JEDEC: MO-187-BA; ComponentLink1Description: Datasheet; ComponentLink1URL: http://www.ti.com/general/docs/lit/getliterature.tsp?genericPartNumber=TPS62004&fileType=pdf; ComponentLink2Description: Package Specification; ComponentLink2URL: http://www.ti.com/litv/pdf/mpds373
footprint DGS10_N (TSSOP, 10-Leads, Body 3x3mm, Pitch 0.5mm, IPC Medium Density)
footprint DGS10_L (TSSOP, 10-Leads, Body 3x3mm, Pitch 0.5mm, IPC High Density)
footprint DGS10_M (TSSOP, 10-Leads, Body 3x3mm, Pitch 0.5mm, IPC Low Density)
pins: 1 VIN (power) "Supply voltage input", 2 FC "Supply bypass pin. A 0.1 µF coupling capacitor should be connected as close as possible to this pin for good high frequency input voltage supply filtering.", 3 GND (power) "Ground", 4 PG (hiz) "Power good comparator output. This is an open-drain output. A pullup resistor should be connected between PG and VO. The output goes active high when the output voltage is greater than 92% of the nominal value.", 5 FB (in) "Feedback pin for the fixed output voltage option. For the adjustable version an external resistive divider is connected to FB. The internal voltage divider is disabled for the adjustable version.", 6 ILIM (in) "Switch current limit. Connect ILIM to GND to set the switch current limit to typically 600 mA, or connect this pin to VIN to set the current limit to typically 1200 mA.", 7 SYNC (in) "Input for synchronization to external clock signal. Synchronizes the converter switching frequency to an external clock signal with CMOS level:SYNC = HIGH: Low-noise mode enabled, fixed frequency PWM operation is forced SYNC (See Datasheet)", 8 EN (in) "Enable. A logic high enables the converter, logic low forces the device into shutdown mode reducing the supply current to less than 1 uA.", 9 L (power) "Connect the inductor to this pin. L is the switch pin connected to the drain of the internal power MOSFETS", 10 PGND (power) "Power ground. Connect all power grounds to PGND."

## TPS62004DGSRG4
designator U?
Buck Step-Down Regulator with 2 V to 5.5 V Input and 1.5 V Output, -40 to 85 degC, 10-Pin MSOP (DGS), Green (RoHS & no Sb/Br); Manufacturer: Texas Instruments; PartNumber: TPS62004DGSRG4; Duty Cycle(Max)(%): 100; Iout(Max)(A): 0.6; Iq(Typ)(mA): 0.05; Preset Vout(V): 1.5; Rating: Catalog; Regulated Outputs(#): 1; Switch Current Limit(Typ)(A): 1.6; Synchronous Rectification: TRUE; Vin(Max)(V): 5.5; Vin(Min)(V): 2; DatasheetVersion: SLVS294E; PackageVersion: revC, Feb-2004; PackageReference: DGS10; PackageDescription: 10-Pin Thin Shrink Small Outline Package 0.5 mm Pitch; Supplier 1: Digi-Key; Supplier Part Number 1: TPS62004DGSRG4-ND; Supplier 2: Newark; Supplier Part Number 2: 54K1734; Supplier 3: Mouser; Supplier Part Number 3: 595-TPS62004DGSRG4; Eco-Plan: Green (RoHS & no Sb/Br); SubFamily: Step-Down Regulator; Topology: Buck; Vout(Max)(V): 1.5; Vout(Min)(V): 1.5; Mounting Technology: Surface Mount; Code_JEDEC: MO-187-BA; ComponentLink1Description: Datasheet; ComponentLink1URL: http://www.ti.com/general/docs/lit/getliterature.tsp?genericPartNumber=TPS62004&fileType=pdf; ComponentLink2Description: Package Specification; ComponentLink2URL: http://www.ti.com/litv/pdf/mpds373
footprint DGS10_N (TSSOP, 10-Leads, Body 3x3mm, Pitch 0.5mm, IPC Medium Density)
footprint DGS10_L (TSSOP, 10-Leads, Body 3x3mm, Pitch 0.5mm, IPC High Density)
footprint DGS10_M (TSSOP, 10-Leads, Body 3x3mm, Pitch 0.5mm, IPC Low Density)
pins: 1 VIN (power) "Supply voltage input", 2 FC "Supply bypass pin. A 0.1 µF coupling capacitor should be connected as close as possible to this pin for good high frequency input voltage supply filtering.", 3 GND (power) "Ground", 4 PG (hiz) "Power good comparator output. This is an open-drain output. A pullup resistor should be connected between PG and VO. The output goes active high when the output voltage is greater than 92% of the nominal value.", 5 FB (in) "Feedback pin for the fixed output voltage option. For the adjustable version an external resistive divider is connected to FB. The internal voltage divider is disabled for the adjustable version.", 6 ILIM (in) "Switch current limit. Connect ILIM to GND to set the switch current limit to typically 600 mA, or connect this pin to VIN to set the current limit to typically 1200 mA.", 7 SYNC (in) "Input for synchronization to external clock signal. Synchronizes the converter switching frequency to an external clock signal with CMOS level:SYNC = HIGH: Low-noise mode enabled, fixed frequency PWM operation is forced SYNC (See Datasheet)", 8 EN (in) "Enable. A logic high enables the converter, logic low forces the device into shutdown mode reducing the supply current to less than 1 uA.", 9 L (power) "Connect the inductor to this pin. L is the switch pin connected to the drain of the internal power MOSFETS", 10 PGND (power) "Power ground. Connect all power grounds to PGND."